# EAGLE library part DAMBALLAH (library loa)
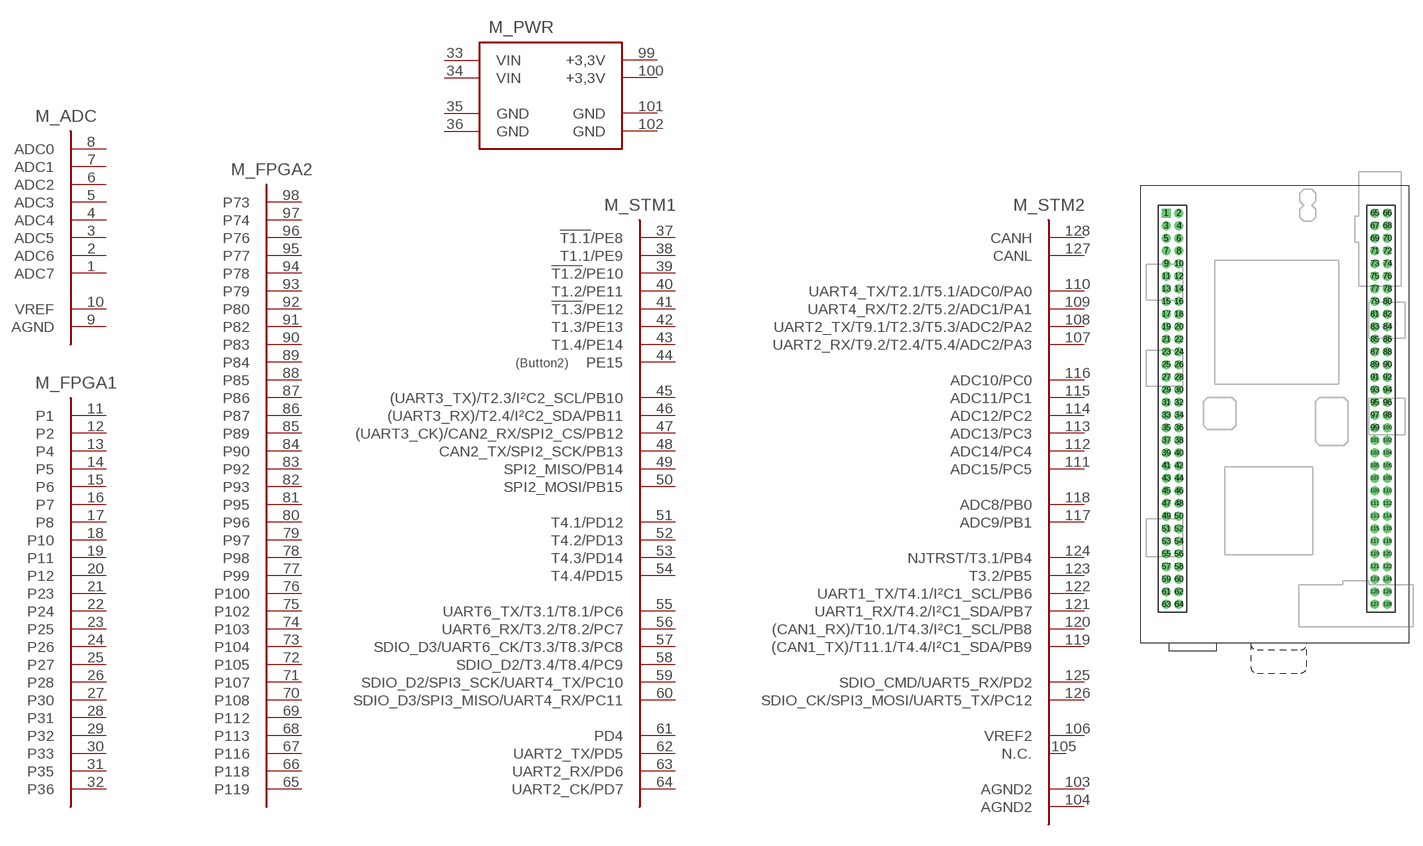
[diagram p0: symbol with the pads of CONTROL; footprint CONTROL]

Designator prefix M; gates _FPGA1=FPGA_1 _FPGA2=FPGA_2 _ADC=FPGA_ADC _PWR=POWER _STM1=STM32_1 _STM2=STM32_2

## DAMBALLAH  [CONTROL]
1  _ADC:ADC7
2  _ADC:ADC6
3  _ADC:ADC5
4  _ADC:ADC4
5  _ADC:ADC3
6  _ADC:ADC2
7  _ADC:ADC1
8  _ADC:ADC0
9  _ADC:AGND
10  _ADC:VREF
11  _FPGA1:P1
12  _FPGA1:P2
13  _FPGA1:P4
14  _FPGA1:P5
15  _FPGA1:P6
16  _FPGA1:P7
17  _FPGA1:P8
18  _FPGA1:P10
19  _FPGA1:P11
20  _FPGA1:P12
21  _FPGA1:P23
22  _FPGA1:P24
23  _FPGA1:P25
24  _FPGA1:P26
25  _FPGA1:P27
26  _FPGA1:P28
27  _FPGA1:P30
28  _FPGA1:P31
29  _FPGA1:P32
30  _FPGA1:P33
31  _FPGA1:P35
32  _FPGA1:P36
33  _PWR:VIN
34  _PWR:VIN
35  _PWR:GND
36  _PWR:GND
37  _STM1:!T1.1!/PE8
38  _STM1:T1.1/PE9
39  _STM1:!T1.2!/PE10
40  _STM1:T1.2/PE11
41  _STM1:!T1.3!/PE12
42  _STM1:T1.3/PE13
43  _STM1:T1.4/PE14
44  _STM1:PE15
45  _STM1:(UART3_TX)/T2.3/I²C2_SCL/PB10
46  _STM1:(UART3_RX)/T2.4/I²C2_SDA/PB11
47  _STM1:(UART3_CK)/CAN2_RX/SPI2_CS/PB12
48  _STM1:CAN2_TX/SPI2_SCK/PB13
49  _STM1:SPI2_MISO/PB14
50  _STM1:SPI2_MOSI/PB15
51  _STM1:T4.1/PD12
52  _STM1:T4.2/PD13
53  _STM1:T4.3/PD14
54  _STM1:T4.4/PD15
55  _STM1:UART6_TX/T3.1/T8.1/PC6
56  _STM1:UART6_RX/T3.2/T8.2/PC7
57  _STM1:SDIO_D3/UART6_CK/T3.3/T8.3/PC8
58  _STM1:SDIO_D2/T3.4/T8.4/PC9
59  _STM1:SDIO_D2/SPI3_SCK/UART4_TX/PC10
60  _STM1:SDIO_D3/SPI3_MISO/UART4_RX/PC11
61  _STM1:PD4
62  _STM1:UART2_TX/PD5
63  _STM1:UART2_RX/PD6
64  _STM1:UART2_CK/PD7
65  _FPGA2:P119
66  _FPGA2:P118
67  _FPGA2:P116
68  _FPGA2:P113
69  _FPGA2:P112
70  _FPGA2:P108
71  _FPGA2:P107
72  _FPGA2:P105
73  _FPGA2:P104
74  _FPGA2:P103
75  _FPGA2:P102
76  _FPGA2:P100
77  _FPGA2:P99
78  _FPGA2:P98
79  _FPGA2:P97
80  _FPGA2:P96
81  _FPGA2:P95
82  _FPGA2:P93
83  _FPGA2:P92
84  _FPGA2:P90
85  _FPGA2:P89
86  _FPGA2:P87
87  _FPGA2:P86
88  _FPGA2:P85
89  _FPGA2:P84
90  _FPGA2:P83
91  _FPGA2:P82
92  _FPGA2:P80
93  _FPGA2:P79
94  _FPGA2:P78
95  _FPGA2:P77
96  _FPGA2:P76
97  _FPGA2:P74
98  _FPGA2:P73
99  _PWR:+3,3V
100  _PWR:+3,3V
101  _PWR:GND
102  _PWR:GND
103  _STM2:AGND2
104  _STM2:AGND2
105  _STM2:N.C.
106  _STM2:VREF2
107  _STM2:UART2_RX/T9.2/T2.4/T5.4/ADC2/PA3
108  _STM2:UART2_TX/T9.1/T2.3/T5.3/ADC2/PA2
109  _STM2:UART4_RX/T2.2/T5.2/ADC1/PA1
110  _STM2:UART4_TX/T2.1/T5.1/ADC0/PA0
111  _STM2:ADC15/PC5
112  _STM2:ADC14/PC4
113  _STM2:ADC13/PC3
114  _STM2:ADC12/PC2
115  _STM2:ADC11/PC1
116  _STM2:ADC10/PC0
117  _STM2:ADC9/PB1
118  _STM2:ADC8/PB0
119  _STM2:(CAN1_TX)/T11.1/T4.4/I²C1_SDA/PB9
120  _STM2:(CAN1_RX)/T10.1/T4.3/I²C1_SCL/PB8
121  _STM2:UART1_RX/T4.2/I²C1_SDA/PB7
122  _STM2:UART1_TX/T4.1/I²C1_SCL/PB6
123  _STM2:T3.2/PB5
124  _STM2:NJTRST/T3.1/PB4
125  _STM2:SDIO_CMD/UART5_RX/PD2
126  _STM2:SDIO_CK/SPI3_MOSI/UART5_TX/PC12
127  _STM2:CANL
128  _STM2:CANH

## Footprint CONTROL (pad centres in mm)
drill 0.914 square: 1 4.08,68.1
drill 0.914 round: 2 6.08,68.1; 3 4.08,66.1; 4 6.08,66.1; 5 4.08,64.1; 6 6.08,64.1; 7 4.08,62.1; 8 6.08,62.1; 9 4.08,60.1; 10 6.08,60.1; 11 4.08,58.1; 12 6.08,58.1; 13 4.08,56.1; 14 6.08,56.1; 15 4.08,54.1; 16 6.08,54.1; 17 4.08,52.1; 18 6.08,52.1; 19 4.08,50.1; 20 6.08,50.1; 21 4.08,48.1; 22 6.08,48.1; 23 4.08,46.1; 24 6.08,46.1; 25 4.08,44.1; 26 6.08,44.1; 27 4.08,42.1; 28 6.08,42.1; 29 4.08,40.1; 30 6.08,40.1; 31 4.08,38.1; 32 6.08,38.1; 33 4.08,36.1; 34 6.08,36.1; 35 4.08,34.1; 36 6.08,34.1; 37 4.08,32.1; 38 6.08,32.1; 39 4.08,30.1; 40 6.08,30.1; 41 4.08,28.1; 42 6.08,28.1; 43 4.08,26.1; 44 6.08,26.1; 45 4.08,24.1; 46 6.08,24.1; 47 4.08,22.1; 48 6.08,22.1; 49 4.08,20.1; 50 6.08,20.1; 51 4.08,18.1; 52 6.08,18.1; 53 4.08,16.1; 54 6.08,16.1; 55 4.08,14.1; 56 6.08,14.1; 57 4.08,12.1; 58 6.08,12.1; 59 4.08,10.1; 60 6.08,10.1; 61 4.08,8.1; 62 6.08,8.1; 63 4.08,6.1; 64 6.08,6.1; 65 37.1,68.1; 66 39.1,68.1; 67 37.1,66.1; 68 39.1,66.1; 69 37.1,64.1; 70 39.1,64.1; 71 37.1,62.1; 72 39.1,62.1; 73 37.1,60.1; 74 39.1,60.1; 75 37.1,58.1; 76 39.1,58.1; 77 37.1,56.1; 78 39.1,56.1; 79 37.1,54.1; 80 39.1,54.1; 81 37.1,52.1; 82 39.1,52.1; 83 37.1,50.1; 84 39.1,50.1; 85 37.1,48.1; 86 39.1,48.1; 87 37.1,46.1; 88 39.1,46.1; 89 37.1,44.1; 90 39.1,44.1; 91 37.1,42.1; 92 39.1,42.1; 93 37.1,40.1; 94 39.1,40.1; 95 37.1,38.1; 96 39.1,38.1; 97 37.1,36.1; 98 39.1,36.1; 99 37.1,34.1; 100 39.1,34.1; 101 37.1,32.1; 102 39.1,32.1; 103 37.1,30.1; 104 39.1,30.1; 105 37.1,28.1; 106 39.1,28.1; 107 37.1,26.1; 108 39.1,26.1; 109 37.1,24.1; 110 39.1,24.1; 111 37.1,22.1; 112 39.1,22.1; 113 37.1,20.1; 114 39.1,20.1; 115 37.1,18.1; 116 39.1,18.1; 117 37.1,16.1; 118 39.1,16.1; 119 37.1,14.1; 120 39.1,14.1; 121 37.1,12.1; 122 39.1,12.1; 123 37.1,10.1; 124 39.1,10.1; 125 37.1,8.1; 126 39.1,8.1; 127 37.1,6.1; 128 39.1,6.1